# Altium footprint library IC.PcbLib: 9 footprints
Each footprint in its own frame and in the unit in brackets; x right, y up, seen from the top. Pads: shape width x height; smd on the part's side, far side on the other; paste and mask are expansions set on the pad; w line width, h text height; cw(c..) or ccw(c..) is an arc to the next point about the centre after c.
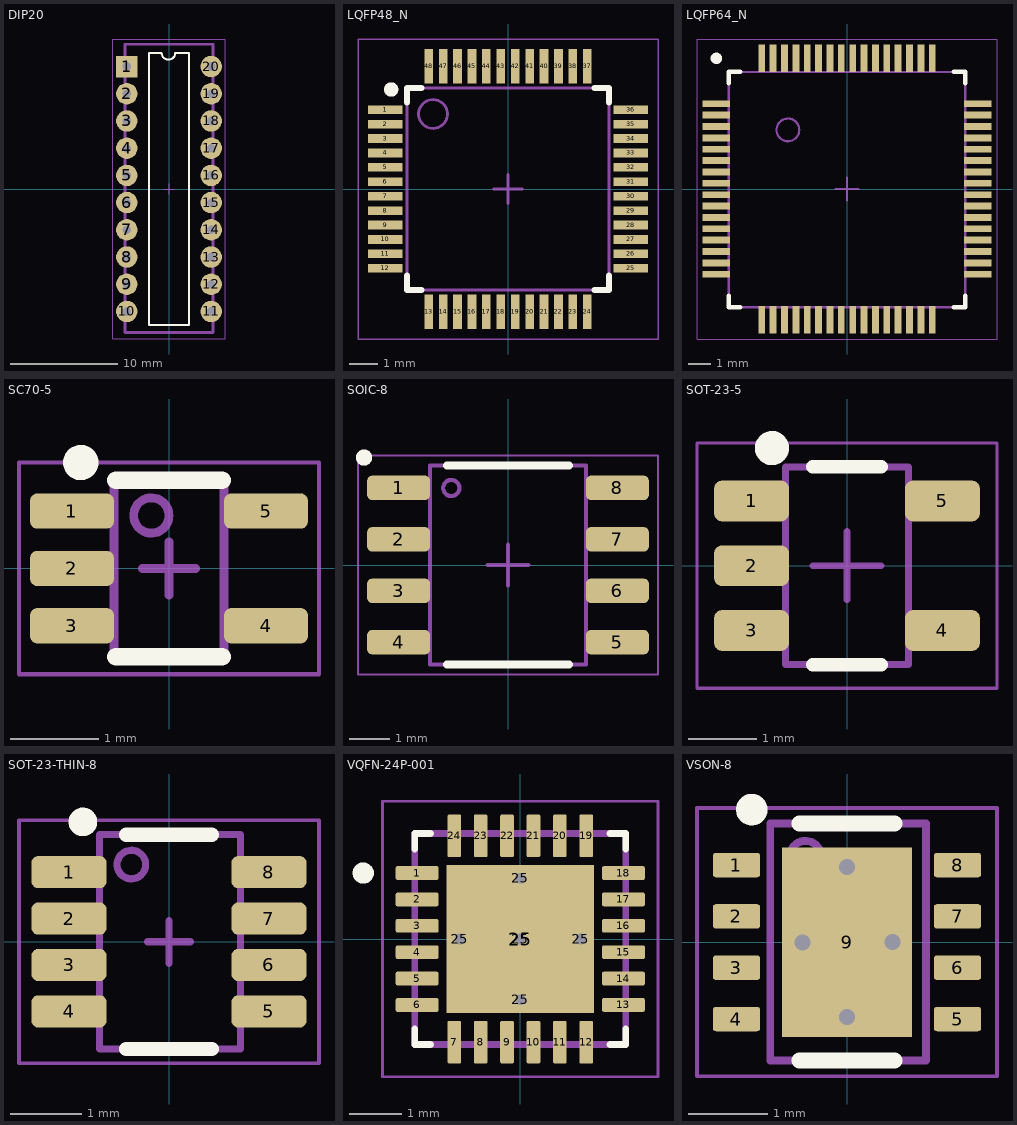
[diagram p0: the footprints below, top view; thin cyan lines are the x and y axes]

## DIP20 [mm]
pads (20):
  rect 2x2 hole 0.8: 1(-3.937,11.43)
  round 2 hole 0.8: 2(-3.937,8.89) 3(-3.937,6.35) 4(-3.937,3.81) 5(-3.937,1.27) 6(-3.937,-1.27) 7(-3.937,-3.81) 8(-3.937,-6.35) 9(-3.937,-8.89) 10(-3.937,-11.43) 11(3.937,-11.43) 12(3.937,-8.89) 13(3.937,-6.35) 14(3.937,-3.81) 15(3.937,-1.27) 16(3.937,1.27) 17(3.937,3.81) 18(3.937,6.35) 19(3.937,8.89) 20(3.937,11.43)
Top Overlay:
  lines w0.2: -0.762,12.7 -1.852,12.7 -1.852,-12.7 1.852,-12.7 1.852,12.7 0.635,12.7 ; -0.687,12.704 ccw(c-0.052,12.704) 0.583,12.704
Top Assembly:
  lines w0.254: -4.1,-13.4 4.1,-13.4 4.1,13.5 -4.1,13.5 -4.1,-13.4
Top Courtyard:
  lines w0.05: -5.25,-14 -5.25,14 5.25,14 5.25,-14 -5.25,-14
  lines w0.1: -0.5,0 0.5,0 ; 0,-0.5 0,0.5
Top Designator:
  text ".Designator" at -7.618,-0.508 h1.52
3D body "N20_TEX.step": height 5.21, standoff -2.54, extent -4.028,-13.424 4.1,13.5

## LQFP48_N [mm] "QFP, 48-Leads, Body 7x7mm, Pitch 0.5mm, IPC Medium Density"
height 1.6
pads (48):
  rect 1.2x0.3 smd: 1(-4.25,2.75) 2(-4.25,2.25) 3(-4.25,1.75) 4(-4.25,1.25) 5(-4.25,0.75) 6(-4.25,0.25) 7(-4.25,-0.25) 8(-4.25,-0.75) 9(-4.25,-1.25) 10(-4.25,-1.75) 11(-4.25,-2.25) 12(-4.25,-2.75) 25(4.25,-2.75) 26(4.25,-2.25) 27(4.25,-1.75) 28(4.25,-1.25) 29(4.25,-0.75) 30(4.25,-0.25) 31(4.25,0.25) 32(4.25,0.75) 33(4.25,1.25) 34(4.25,1.75) 35(4.25,2.25) 36(4.25,2.75)
  rect 0.3x1.2 smd: 13(-2.75,-4.25) 14(-2.25,-4.25) 15(-1.75,-4.25) 16(-1.25,-4.25) 17(-0.75,-4.25) 18(-0.25,-4.25) 19(0.25,-4.25) 20(0.75,-4.25) 21(1.25,-4.25) 22(1.75,-4.25) 23(2.25,-4.25) 24(2.75,-4.25) 37(2.75,4.25) 38(2.25,4.25) 39(1.75,4.25) 40(1.25,4.25) 41(0.75,4.25) 42(0.25,4.25) 43(-0.25,4.25) 44(-0.75,4.25) 45(-1.25,4.25) 46(-1.75,4.25) 47(-2.25,4.25) 48(-2.75,4.25)
Top Overlay:
  circle w0.25: c-4.05,3.45 r0.125
  lines w0.2: -3.5,-3 -3.5,-3.5 -3,-3.5 ; -3.5,3 -3.5,3.5 -3,3.5 ; 3,-3.5 3.5,-3.5 3.5,-3 ; 3,3.5 3.5,3.5 3.5,3
Top Assembly:
  circle w0.1: c-2.6,2.6 r0.5
  lines w0.1: -3.5,-3.5 3.5,-3.5 3.5,3.5 -3.5,3.5 -3.5,-3.5
Top Courtyard:
  lines w0.05: -5.2,-5.2 -5.2,5.2 5.2,5.2 5.2,-5.2 -5.2,-5.2
  lines w0.1: -0.5,0 0.5,0 ; 0,-0.5 0,0.5
Top Designator:
  text ".Designator" at -7.618,-0.508 h1.52
3D body "STM32F103C8T6--3DModel-STEP-510211.STEP": height 1.6, standoff 0, extent -4.5,-4.5 4.5,4.5

## LQFP64_N [mm] "QFP, 64-Leads, Body 10x10mm, Pitch 0.5mm, IPC Medium Density"
height 1.6
pads (64):
  rect 1.2x0.3 smd: 1(-5.75,3.75) 2(-5.75,3.25) 3(-5.75,2.75) 4(-5.75,2.25) 5(-5.75,1.75) 6(-5.75,1.25) 7(-5.75,0.75) 8(-5.75,0.25) 9(-5.75,-0.25) 10(-5.75,-0.75) 11(-5.75,-1.25) 12(-5.75,-1.75) 13(-5.75,-2.25) 14(-5.75,-2.75) 15(-5.75,-3.25) 16(-5.75,-3.75) 33(5.75,-3.75) 34(5.75,-3.25) 35(5.75,-2.75) 36(5.75,-2.25) 37(5.75,-1.75) 38(5.75,-1.25) 39(5.75,-0.75) 40(5.75,-0.25) 41(5.75,0.25) 42(5.75,0.75) 43(5.75,1.25) 44(5.75,1.75) 45(5.75,2.25) 46(5.75,2.75) 47(5.75,3.25) 48(5.75,3.75)
  rect 0.3x1.2 smd: 17(-3.75,-5.75) 18(-3.25,-5.75) 19(-2.75,-5.75) 20(-2.25,-5.75) 21(-1.75,-5.75) 22(-1.25,-5.75) 23(-0.75,-5.75) 24(-0.25,-5.75) 25(0.25,-5.75) 26(0.75,-5.75) 27(1.25,-5.75) 28(1.75,-5.75) 29(2.25,-5.75) 30(2.75,-5.75) 31(3.25,-5.75) 32(3.75,-5.75) 49(3.75,5.75) 50(3.25,5.75) 51(2.75,5.75) 52(2.25,5.75) 53(1.75,5.75) 54(1.25,5.75) 55(0.75,5.75) 56(0.25,5.75) 57(-0.25,5.75) 58(-0.75,5.75) 59(-1.25,5.75) 60(-1.75,5.75) 61(-2.25,5.75) 62(-2.75,5.75) 63(-3.25,5.75) 64(-3.75,5.75)
Top Overlay:
  circle w0.25: c-5.75,5.75 r0.125
  lines w0.2: -5.2,-4.7 -5.2,-5.2 -4.7,-5.2 ; -5.2,4.65 -5.2,5.15 -4.7,5.15 ; 4.7,-5.2 5.2,-5.2 5.2,-4.7 ; 4.7,5.15 5.2,5.15 5.2,4.65
Top Assembly:
  circle w0.1: c-2.6,2.6 r0.5
  lines w0.1: -5.2,-5.2 5.2,-5.2 5.2,5.15 -5.2,5.15 -5.2,-5.2
Top Courtyard:
  lines w0.05: -6.6,-6.6 -6.6,6.6 6.6,6.6 6.6,-6.6 -6.6,-6.6
  lines w0.1: -0.5,0 0.5,0 ; 0,-0.5 0,0.5
Top Designator:
  text ".Designator" at -7.618,-0.508 h1.52
3D body "LQFP64 v1.step": height 1.6, standoff 0.02, extent -6.069,-6.069 6.069,6.069

## SC70-5 [mm]
height 1.1
pads (5):
  rrect40% 0.95x0.4 smd mask+0.07: 1(-1.1,0.65) 2(-1.1,0) 3(-1.1,-0.65) 4(1.1,-0.65) 5(1.1,0.65)
Top Overlay:
  circle w0.2: c-1,1.2 r0.1
  lines w0.2: -0.6,-1 0.6,-1 ; -0.6,1 0.6,1
Top Assembly:
  circle w0.1: c-0.2,0.6 r0.2
  lines w0.1: -0.625,-1 0.625,-1 0.625,1 -0.625,1 -0.625,-1
Top Courtyard:
  lines w0.05: -1.7,-1.2 -1.7,1.2 1.7,1.2 1.7,-1.2 -1.7,-1.2
  lines w0.1: -0.3,0 0.3,0 ; 0,-0.3 0,0.3
Top Designator:
  text ".Designator" at -2.499,-0.167 h0.5
3D body "User Library-SC70-5-1.step": height 0.95, standoff 0, extent -1.05,-1 1.05,1

## SOIC-8 [mm] "SOIC-8 package"
height 1.75
pads (8):
  rrect40% 1.55x0.6 smd mask+0.07: 1(-2.7,1.905) 2(-2.7,0.635) 3(-2.7,-0.635) 4(-2.7,-1.905) 5(2.7,-1.905) 6(2.7,-0.635) 7(2.7,0.635) 8(2.7,1.905)
Top Overlay:
  circle w0.2: c-3.55,2.65 r0.1
  lines w0.2: -1.5,-2.45 1.5,-2.45 ; -1.5,2.45 1.5,2.45
Top Assembly:
  circle w0.1: c-1.4,1.9 r0.2
  lines w0.1: -1.927,-2.45 -1.927,2.45 1.925,2.45 1.925,-2.45 -1.927,-2.45
Top Courtyard:
  lines w0.05: -3.7,-2.7 3.7,-2.7 3.7,2.7 -3.7,2.7 -3.7,-2.7
  lines w0.1: -0.5,0 0.5,0 ; 0,-0.5 0,0.5
Top Designator:
  text ".Designator" at -3.999,-0.267 h0.8
3D body "SOIC8.STEP": height 1.5, standoff 0, extent -2.95,-2.45 2.95,2.45

## SOT-23-5 [mm] "SOT23, 5-Leads, Body 2.90x2.70mm, Pitch 0.95mm, IPC Medium Density"
height 1.45
pads (5):
  rrect40% 1.1x0.6 smd: 1(-1.4,0.95) 2(-1.4,0) 3(-1.4,-0.95) 4(1.4,-0.95) 5(1.4,0.95)
Top Overlay:
  circle w0.25: c-1.1,1.725 r0.125
  lines w0.2: -0.5,-1.45 0.5,-1.45 ; -0.5,1.45 0.5,1.45
Top Assembly:
  lines w0.1: -0.9,-1.45 -0.9,1.45 0.9,1.45 0.9,-1.45 -0.9,-1.45
Top Courtyard:
  lines w0.05: -2.2,-1.8 2.2,-1.8 2.2,1.8 -2.2,1.8 -2.2,-1.8
  lines w0.1: -0.5,0 0.5,0 ; 0,-0.5 0,0.5
3D body "sot-23-5-microchip.STEP": height 1.19, standoff 0, extent -1.36,-1.45 1.361,1.45

## SOT-23-THIN-8 [mm] "SOT-23 Thin 8 pins"
height 1.1
pads (8):
  rrect40% 1.05x0.45 smd mask+0.07: 1(-1.4,0.975) 2(-1.4,0.325) 3(-1.4,-0.325) 4(-1.4,-0.975) 5(1.4,-0.975) 6(1.4,-0.325) 7(1.4,0.325) 8(1.4,0.975)
Top Overlay:
  circle w0.2: c-1.206,1.677 r0.1
  lines w0.2: -0.6,-1.5 0.6,-1.5 ; -0.6,1.5 0.6,1.5
Top Assembly:
  circle w0.1: c-0.527,1.081 r0.2
  lines w0.1: -0.972,-1.5 -0.972,1.5 1,1.5 1,-1.5 -0.972,-1.5
Top Courtyard:
  lines w0.05: -2.1,-1.7 2.1,-1.7 2.1,1.7 -2.1,1.7 -2.1,-1.7
  lines w0.1: -0.3,0 0.3,0 ; 0,-0.3 0,0.3
Top Designator:
  text ".Designator" at -2.499,-0.167 h0.5
3D body "SOT23-8.stp": height 1.2, standoff 0.02, extent -1.435,-1.5 1.4,1.5

## VQFN-24P-001 [mm]
height 1
pads (30):
  rrect25% 0.81x0.26 smd mask+0.05: 1(-1.955,1.25) 2(-1.955,0.75) 3(-1.955,0.25) 4(-1.955,-0.25) 5(-1.955,-0.75) 6(-1.955,-1.25) 13(1.955,-1.25) 14(1.955,-0.75) 15(1.955,-0.25) 16(1.955,0.25) 17(1.955,0.75) 18(1.955,1.25)
  rrect25% 0.26x0.81 smd mask+0.05: 7(-1.25,-1.955) 8(-0.75,-1.955) 9(-0.25,-1.955) 10(0.25,-1.955) 11(0.75,-1.955) 12(1.25,-1.955) 19(1.25,1.955) 20(0.75,1.955) 21(0.25,1.955) 22(-0.25,1.955) 23(-0.75,1.955) 24(-1.25,1.955)
  round 0.4 hole 0.2 mask+0: 25(-1.15,0) 25(0,-1.15) 25(0,0) 25(0,1.15) 25(1.15,0)
  rect 2.8x2.8 smd paste-2 mask+0.05: 25(0,0)
Top Overlay:
  circle w0.2: c-2.975,1.25 r0.1
  lines w0.127: -2,-1.7 -2,-2 -1.7,-2 ; -2,1.7 -2,2 -1.7,2 ; 1.7,-2 2,-2 2,-1.7 ; 1.7,2 2,2 2,1.7
Top Paste:
  region: -0.1,0.1 -1.33,0.1 -1.33,1.33 -0.1,1.33
  region: 1.33,0.1 0.1,0.1 0.1,1.33 1.33,1.33
  region: -0.1,-1.33 -1.33,-1.33 -1.33,-0.1 -0.1,-0.1
  region: 1.33,-1.33 0.1,-1.33 0.1,-0.1 1.33,-0.1
Top Assembly:
  lines w0.127: -2,-2 -2,2 2,2 2,-2 -2,-2
Top Courtyard:
  lines w0.05: -2.61,-2.61 2.61,-2.61 2.61,2.61 -2.61,2.61 -2.61,-2.61
  lines w0.1: -0.3,0 0.3,0 ; 0,-0.3 0,0.3
3D body "DRV8701ERGER.STEP": height 1, standoff 0, extent -2,-2 2,2

## VSON-8 [mm] "VSON-8 Package"
height 1
pads (9):
  rrect25% 0.6x0.31 smd mask+0.07: 1(-1.4,0.975) 2(-1.4,0.325) 3(-1.4,-0.325) 4(-1.4,-0.975) 5(1.4,-0.975) 6(1.4,-0.325) 7(1.4,0.325) 8(1.4,0.975)
  rect 1.65x2.4 smd paste-2539.97 mask+0.07: 9(0,0)
via -0.563,-0.005 diameter 0.4 hole 0.2
via 0.575,0 diameter 0.4 hole 0.2
via 0,0.95 diameter 0.4 hole 0.2
via 0,-0.95 diameter 0.4 hole 0.2
Top Overlay:
  circle w0.2: c-1.206,1.677 r0.1
  lines w0.2: -0.6,-1.5 0.6,-1.5 ; -0.6,1.5 0.6,1.5
Top Paste:
  region: 0.755,1.16 -0.755,1.16 -0.755,0.1 0.755,0.1
  rectangle: -0.755,-1.16 0.755,-0.1
Top Assembly:
  circle w0.1: c-0.527,1.081 r0.2
  lines w0.1: -0.972,-1.5 1,-1.5 1,1.5 -0.972,1.5 -0.972,-1.5
Top Courtyard:
  lines w0.05: -1.9,-1.7 -1.9,1.7 1.9,1.7 1.9,-1.7 -1.9,-1.7
  lines w0.1: -0.3,0 0.3,0 ; 0,-0.3 0,0.3
Top Designator:
  text ".Designator" at -2.499,-0.167 h0.5
3D body "DRB0008J.stp": height 1, standoff 0, extent -1.5,-1.5 1.5,1.5